# EAGLE library part RPI (library DEEP_MainBoard — kopia)
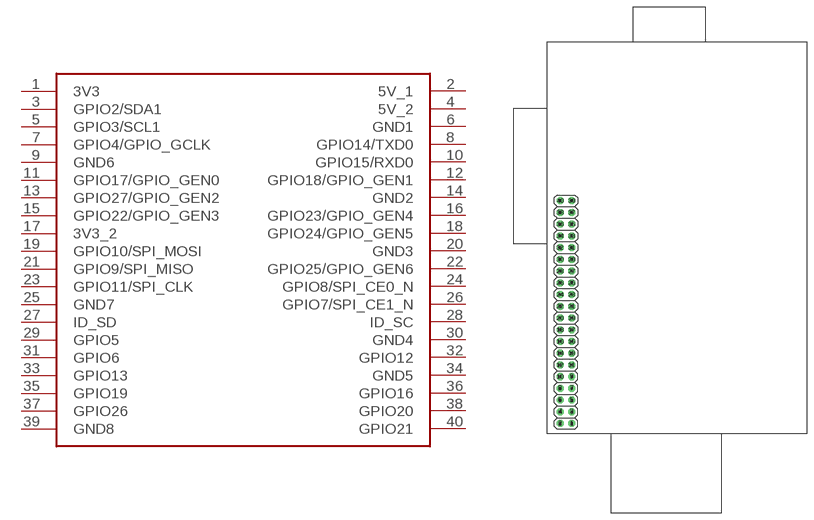
[diagram p3: symbol with the pads of RPI; footprint RPI]

Designator prefix -

## RPI  [RPI]
1  3V3
2  5V_1
3  GPIO2/SDA1
4  5V_2
5  GPIO3/SCL1
6  GND1
7  GPIO4/GPIO_GCLK
8  GPIO14/TXD0
9  GND6
10  GPIO15/RXD0
11  GPIO17/GPIO_GEN0
12  GPIO18/GPIO_GEN1
13  GPIO27/GPIO_GEN2
14  GND2
15  GPIO22/GPIO_GEN3
16  GPIO23/GPIO_GEN4
17  3V3_2
18  GPIO24/GPIO_GEN5
19  GPIO10/SPI_MOSI
20  GND3
21  GPIO9/SPI_MISO
22  GPIO25/GPIO_GEN6
23  GPIO11/SPI_CLK
24  GPIO8/SPI_CE0_N
25  GND7
26  GPIO7/SPI_CE1_N
27  ID_SD
28  ID_SC
29  GPIO5
30  GND4
31  GPIO6
32  GPIO12
33  GPIO13
34  GND5
35  GPIO19
36  GPIO16
37  GPIO26
38  GPIO20
39  GND8
40  GPIO21

## Footprint RPI (pad centres in mm)
drill 1.016 octagon: 1 5.32,2.28; 2 2.78,2.28; 3 5.32,4.82; 4 2.78,4.82; 5 5.32,7.36; 6 2.78,7.36; 7 5.32,9.9; 8 2.78,9.9; 9 5.32,12.44; 10 2.78,12.44; 11 5.32,14.98; 12 2.78,14.98; 13 5.32,17.52; 14 2.78,17.52; 15 5.32,20.06; 16 2.78,20.06; 17 5.32,22.6; 18 2.78,22.6; 19 5.32,25.14; 20 2.78,25.14; 21 5.32,27.68; 22 2.78,27.68; 23 5.32,30.22; 24 2.78,30.22; 25 5.32,32.76; 26 2.78,32.76; 27 5.32,35.3; 28 2.78,35.3; 29 5.32,37.84; 30 2.78,37.84; 31 5.32,40.38; 32 2.78,40.38; 33 5.32,42.92; 34 2.78,42.92; 35 5.32,45.46; 36 2.78,45.46; 37 5.32,48; 38 2.78,48; 39 5.32,50.54; 40 2.78,50.54